# Altium schematic symbol library HamsterBear_Core_Board.SchLib: 24 symbols
Pins are listed as number, name and electrical type; pins without a type are passive.

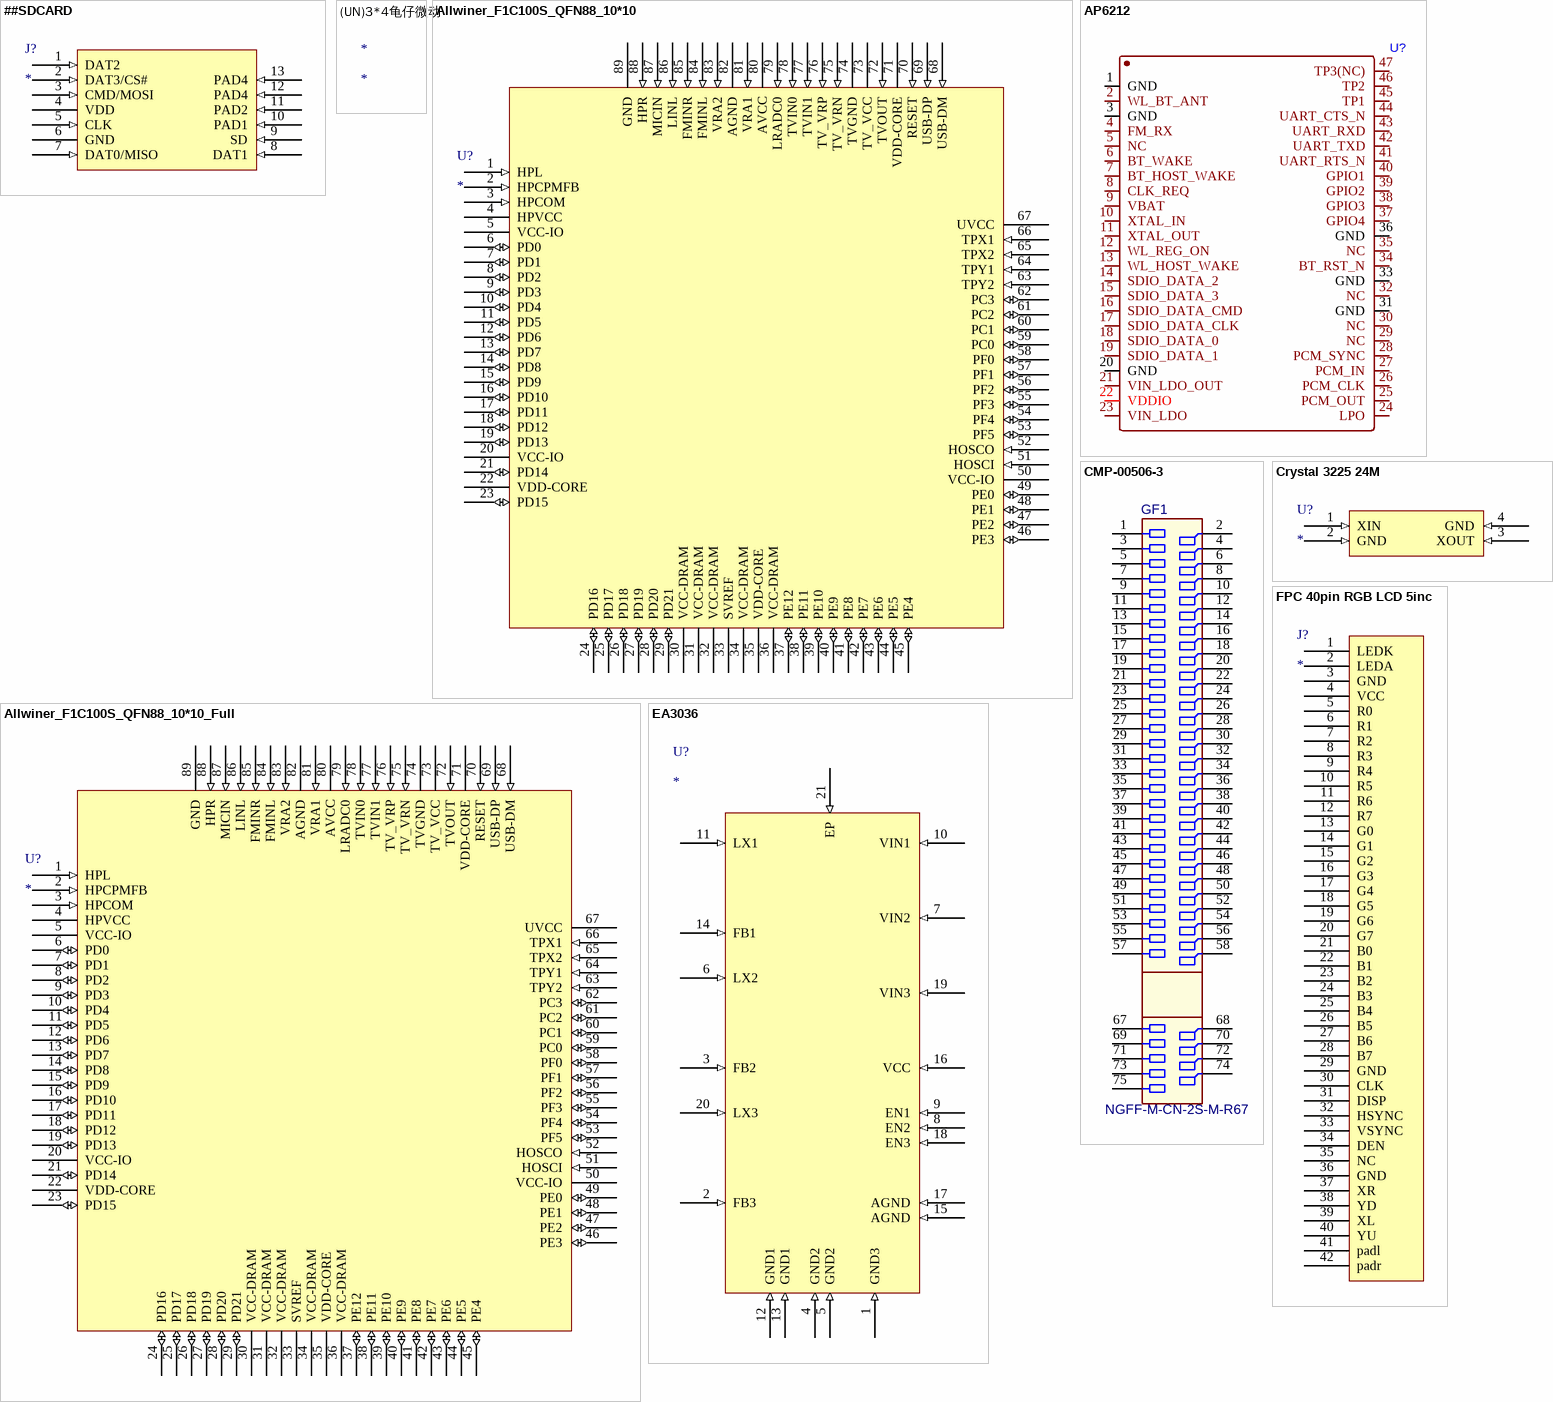
[diagram p0: symbols ##SDCARD to FPC 40pin RGB LCD 5inc]

## ##SDCARD
designator J?
pins: 1 DAT2 (in), 2 DAT3/CS# (in), 3 CMD/MOSI (in), 4 VDD (power), 5 CLK (in), 6 GND (power), 7 DAT0/MISO (in), 8 DAT1 (in), 9 SD (in), 10 PAD1 (in), 11 PAD2 (in), 12 PAD4 (in), 13 PAD4 (in)

## (UN)3*4龟仔微动
designator *

## Allwiner_F1C100S_QFN88_10*10
designator U?
footprint QFN40P1000X1000X90_HS-89N (QFN, 88-Leads, Body 10.00x10.00mm, Pitch 0.40mm, Thermal Pad 6.74x6.74mm, IPC Medium Density)
pins: 1 HPL (in) "Headphone Left Output", 2 HPCPMFB (in), 3 HPCOM (in), 4 HPVCC (power), 5 VCC-IO (power), 6 PD0 (io), 7 PD1 (io), 8 PD2 (io), 9 PD3 (io), 10 PD4 (io), 11 PD5 (io), 12 PD6 (io), 13 PD7 (io), 14 PD8 (io), 15 PD9 (io), 16 PD10 (io), 17 PD11 (io), 18 PD12 (io), 19 PD13 (io), 20 VCC-IO (power), 21 PD14 (io), 22 VDD-CORE (power), 23 PD15 (io), 24 PD16 (io), 25 PD17 (io), 26 PD18 (io), 27 PD19 (io), 28 PD20 (io), 29 PD21 (io), 30 VCC-DRAM (power), 31 VCC-DRAM (power), 32 VCC-DRAM (power), 33 SVREF (power), 34 VCC-DRAM (power), 35 VDD-CORE (power), 36 VCC-DRAM (power), 37 PE12 (io), 38 PE11 (io), 39 PE10 (io), 40 PE9 (io), 41 PE8 (io), 42 PE7 (io), 43 PE6 (io), 44 PE5 (io), 45 PE4 (io), 46 PE3 (io), 47 PE2 (io), 48 PE1 (io), 49 PE0 (io), 50 VCC-IO (power), 51 HOSCI (in), 52 HOSCO (in), 53 PF5 (io), 54 PF4 (io), 55 PF3 (io), 56 PF2 (io), 57 PF1 (io), 58 PF0 (io), 59 PC0 (io), 60 PC1 (io), 61 PC2 (io), 62 PC3 (io), 63 TPY2 (in), 64 TPY1 (in), 65 TPX2 (in), 66 TPX1 (in), 67 UVCC (power), 68 USB-DM (in), 69 USB-DP (in), 70 RESET (in), 71 VDD-CORE (power), 72 TVOUT (in), 73 TV_VCC (power), 74 TVGND (power), 75 TV_VRN (in), 76 TV_VRP (in), 77 TVIN1 (in), 78 TVIN0 (in), 79 LRADC0 (in), 80 AVCC (power), 81 VRA1 (in), 82 AGND (power), 83 VRA2 (in), 84 FMINL (in), 85 FMINR (in), 86 LINL (in), 87 MICIN (in), 88 HPR (in), 89 GND (power)

## Allwiner_F1C100S_QFN88_10*10_Full
designator U?
footprint QFN40P1000X1000X90_HS-89N (QFN, 88-Leads, Body 10.00x10.00mm, Pitch 0.40mm, Thermal Pad 6.74x6.74mm, IPC Medium Density)
pins: 1 HPL (in), 2 HPCPMFB (in), 3 HPCOM (in), 4 HPVCC (power), 5 VCC-IO (power), 6 PD0 (io), 7 PD1 (io), 8 PD2 (io), 9 PD3 (io), 10 PD4 (io), 11 PD5 (io), 12 PD6 (io), 13 PD7 (io), 14 PD8 (io), 15 PD9 (io), 16 PD10 (io), 17 PD11 (io), 18 PD12 (io), 19 PD13 (io), 20 VCC-IO (power), 21 PD14 (io), 22 VDD-CORE (power), 23 PD15 (io), 24 PD16 (io), 25 PD17 (io), 26 PD18 (io), 27 PD19 (io), 28 PD20 (io), 29 PD21 (io), 30 VCC-DRAM (power), 31 VCC-DRAM (power), 32 VCC-DRAM (power), 33 SVREF (power), 34 VCC-DRAM (power), 35 VDD-CORE (power), 36 VCC-DRAM (power), 37 PE12 (io), 38 PE11 (io), 39 PE10 (io), 40 PE9 (io), 41 PE8 (io), 42 PE7 (io), 43 PE6 (io), 44 PE5 (io), 45 PE4 (io), 46 PE3 (io), 47 PE2 (io), 48 PE1 (io), 49 PE0 (io), 50 VCC-IO (power), 51 HOSCI (in), 52 HOSCO (in), 53 PF5 (io), 54 PF4 (io), 55 PF3 (io), 56 PF2 (io), 57 PF1 (io), 58 PF0 (io), 59 PC0 (io), 60 PC1 (io), 61 PC2 (io), 62 PC3 (io), 63 TPY2 (in), 64 TPY1 (in), 65 TPX2 (in), 66 TPX1 (in), 67 UVCC (power), 68 USB-DM (in), 69 USB-DP (in), 70 RESET (in), 71 VDD-CORE (power), 72 TVOUT (in), 73 TV_VCC (power), 74 TVGND (power), 75 TV_VRN (in), 76 TV_VRP (in), 77 TVIN1 (in), 78 TVIN0 (in), 79 LRADC0 (in), 80 AVCC (power), 81 VRA1 (in), 82 AGND (power), 83 VRA2 (in), 84 FMINL (in), 85 FMINR (in), 86 LINL (in), 87 MICIN (in), 88 HPR (in), 89 GND (power)

## AP6212
designator U?
footprint QFN-44_L12.0-W12.0-P0.90-TL_AP6212
pins: 1 GND, 2 WL_BT_ANT, 3 GND, 4 FM_RX, 5 NC, 6 BT_WAKE, 7 BT_HOST_WAKE, 8 CLK_REQ, 9 VBAT, 10 XTAL_IN, 11 XTAL_OUT, 12 WL_REG_ON, 13 WL_HOST_WAKE, 14 SDIO_DATA_2, 15 SDIO_DATA_3, 16 SDIO_DATA_CMD, 17 SDIO_DATA_CLK, 18 SDIO_DATA_0, 19 SDIO_DATA_1, 20 GND, 21 VIN_LDO_OUT, 22 VDDIO, 23 VIN_LDO, 24 LPO, 25 PCM_OUT, 26 PCM_CLK, 27 PCM_IN, 28 PCM_SYNC, 29 NC, 30 NC, 31 GND, 32 NC, 33 GND, 34 BT_RST_N, 35 NC, 36 GND, 37 GPIO4, 38 GPIO3, 39 GPIO2, 40 GPIO1, 41 UART_RTS_N, 42 UART_TXD, 43 UART_RXD, 44 UART_CTS_N, 45 TP1, 46 TP2, 47 TP3(NC)

## CMP-00506-3
designator GF1, comment NGFF-M-CN-2S-M-R67  (no BOM)
Golden finger, NGFF key M, Dual, Staggered, Pitch 0.5mm, 67-Position; Pins: 67
footprint NGFF-M-GF-2D-500-1K-S67 (Golden finger, NGFF key M, Dual, Staggered, Pitch 0.5mm, 47-Position)
pins: 1, 2, 3, 4, 5, 6, 7, 8, 9, 10, 11, 12, 13, 14, 15, 16, 17, 18, 19, 20, 21, 22, 23, 24, 25, 26, 27, 28, 29, 30, 31, 32, 33, 34, 35, 36, 37, 38, 39, 40, 41, 42, 43, 44, 45, 46, 47, 48, 49, 50, 51, 52, 53, 54, 55, 56, 57, 58, 67, 68, 69, 70, 71, 72, 73, 74, 75

## Crystal 3225 24M
designator U?
footprint OSC 3225-4P (3.2*2.5*0.7mm(长宽高))
pins: 1 XIN (in), 2 GND (in), 3 XOUT (in), 4 GND (in)

## EA3036
designator U?
footprint QFN40P300X300X80_HS-21N (QFN, 20-Leads, Body 3.00x3.00mm, Pitch 0.40mm, Thermal Pad 2.05x2.05mm, IPC Medium Density)
pins: 1 GND3 (in), 2 FB3 (in), 3 FB2 (in), 4 GND2 (in), 5 GND2 (in), 6 LX2 (in), 7 VIN2 (in), 8 EN2 (in), 9 EN1 (in), 10 VIN1 (in), 11 LX1 (in), 12 GND1 (in), 13 GND1 (in), 14 FB1 (in), 15 AGND (in), 16 VCC (in), 17 AGND (in), 18 EN3 (in), 19 VIN3 (in), 20 LX3 (in), 21 EP (in)

## FPC 40pin RGB LCD 5inc
designator J?
footprint FPC0.5 2H-WS-40P (长：24.2mm，宽：5.2mm，高：2mm)
pins: 1 LEDK, 2 LEDA, 3 GND, 4 VCC, 5 R0, 6 R1, 7 R2, 8 R3, 9 R4, 10 R5, 11 R6, 12 R7, 13 G0, 14 G1, 15 G2, 16 G3, 17 G4, 18 G5, 19 G6, 20 G7, 21 B0, 22 B1, 23 B2, 24 B3, 25 B4, 26 B5, 27 B6, 28 B7, 29 GND, 30 CLK, 31 DISP, 32 HSYNC, 33 VSYNC, 34 DEN, 35 NC, 36 GND, 37 XR, 38 YD, 39 XL, 40 YU, 41 padl, 42 padr

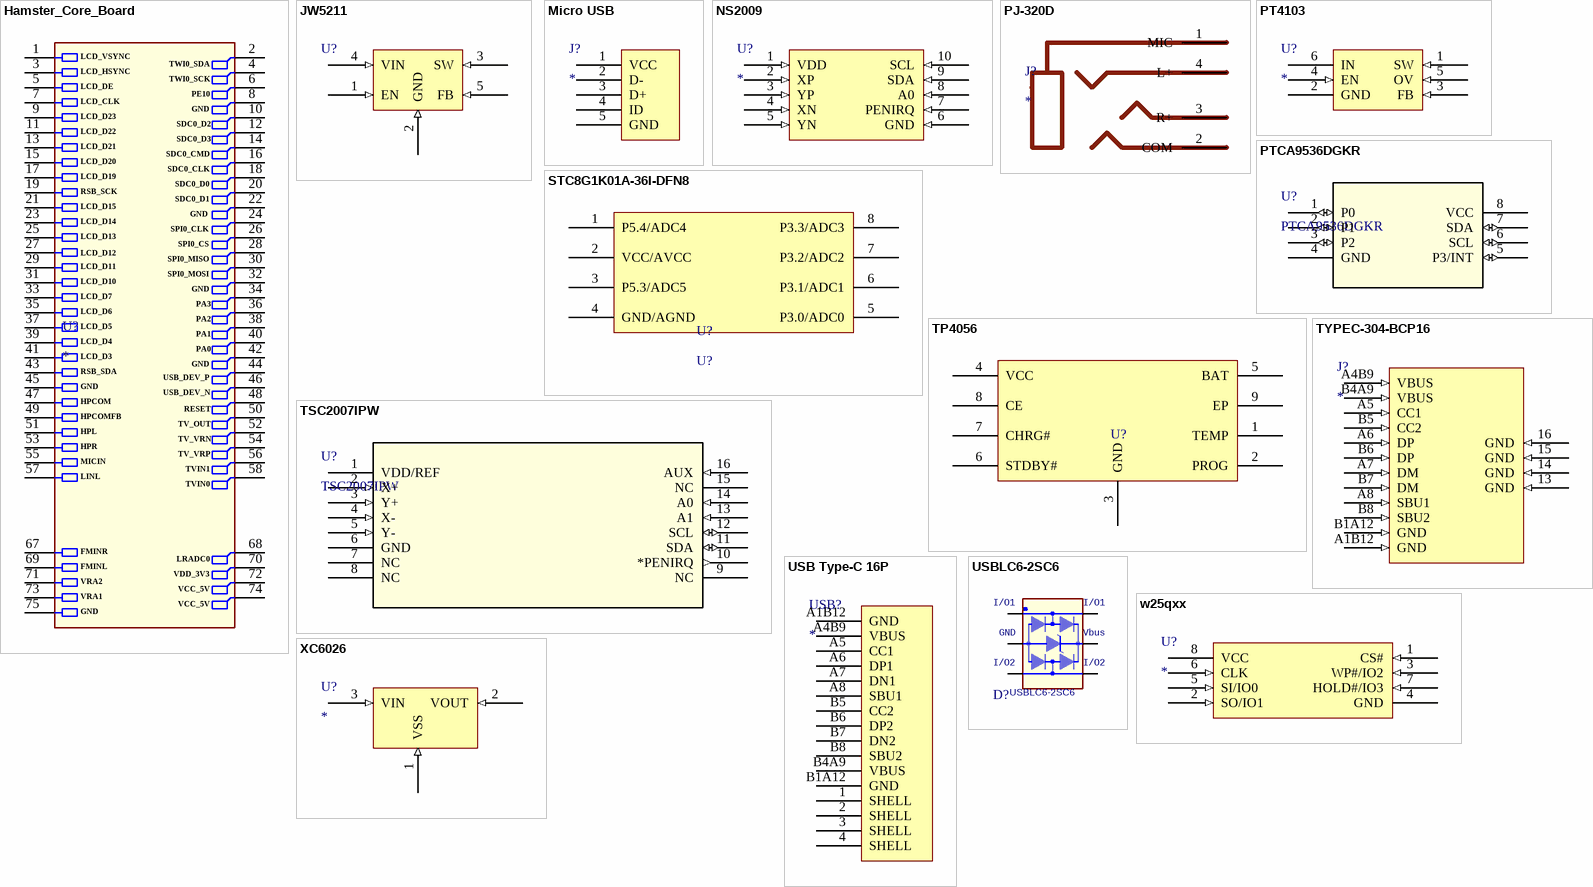
[diagram p1: symbols Hamster_Core_Board to XC6026]

## Hamster_Core_Board
designator U?
HamsterBear核心板
pins: 1, 2, 3, 4, 5, 6, 7, 8, 9, 10, 11, 12, 13, 14, 15, 16, 17, 18, 19, 20, 21, 22, 23, 24, 25, 26, 27, 28, 29, 30, 31, 32, 33, 34, 35, 36, 37, 38, 39, 40, 41, 42, 43, 44, 45, 46, 47, 48, 49, 50, 51, 52, 53, 54, 55, 56, 57, 58, 67, 68, 69, 70, 71, 72, 73, 74, 75
text: LCD_VSYNC; TWI0_SDA; LCD_HSYNC; TWI0_SCK; LCD_DE; PE10; LCD_CLK; GND; LCD_D23; SDC0_D2; LCD_D22; SDC0_D3; LCD_D21; SDC0_CMD; LCD_D20; SDC0_CLK; LCD_D19; SDC0_D0; RSB_SCK; SDC0_D1; LCD_D15; LCD_D14; SPI0_CLK; LCD_D13; SPI0_CS; LCD_D12; SPI0_MISO; LCD_D11; SPI0_MOSI; LCD_D10; LCD_D7; PA3; LCD_D6; PA2; LCD_D5; PA1; LCD_D4; PA0; LCD_D3; RSB_SDA; USB_DEV_P; USB_DEV_N; HPCOM; RESET; HPCOMFB; TV_OUT; HPL; TV_VRN; HPR; TV_VRP; MICIN; TVIN1; LINL; TVIN0; FMINR; LRADC0; FMINL; VDD_3V3; VRA2; VCC_5V; VRA1

## JW5211
designator U?
footprint SOT23-5
pins: 1 EN (in), 2 GND (in), 3 SW (in), 4 VIN (in), 5 FB (in)

## Micro USB
designator J?
footprint USB-micro_A (micro型USB ，5.7*7.8*2.5mm)
pins: 1 VCC (power), 2 D-, 3 D+, 4 ID, 5 GND (power)

## NS2009
designator U?
footprint TSSOP50P490X121-10N (TSSOP, 10-Leads, Body 3.00x3.00mm, Pitch 0.50mm, IPC Medium Density)
pins: 1 VDD (in), 2 XP (in), 3 YP (in), 4 XN (in), 5 YN (in), 6 GND (in), 7 PENIRQ (in), 8 A0 (in), 9 SDA (in), 10 SCL (in)

## PJ-320D
designator J?
footprint PJ-320D
pins: 1 MIC, 2 COM, 3 R+, 4 L+

## PT4103
designator U?
footprint SOT95P280X125-6N (SOT23, 6-Leads, Body 2.92x2.80mm, Pitch 0.95mm, IPC Medium Density)
pins: 1 SW (in), 2 GND (power), 3 FB (in), 4 EN (in), 5 OV (in), 6 IN (power)

## PTCA9536DGKR
designator U?
No Description Available; Mfr_Name: Texas Instruments; Copyright: Copyright (C) 2022 Ultra Librarian. All rights reserved.; Manufacturer_Part_Number: PTCA9536DGKR; RefDes: RefDes; Type: DEV
footprint U_VSSOP_DGK_TEX
footprint SOIC127P600X175-8N
pins: 1 P0 (io), 2 P1 (io), 3 P2 (io), 4 GND, 5 P3/INT (io), 6 SCL (io), 7 SDA (io), 8 VCC (power)

## STC8G1K01A-36I-DFN8
designator U?, comment U?
footprint STC8G1K01A-36I-SOP8 (SOP, 8-Leads, Body 4.90x3.90mm, Pitch 1.27mm, IPC Medium Density)
pins: 1 P5.4/ADC4, 2 VCC/AVCC, 3 P5.3/ADC5, 4 GND/AGND, 5 P3.0/ADC0, 6 P3.1/ADC1, 7 P3.2/ADC2, 8 P3.3/ADC3

## TP4056
designator U?
footprint TP4056-SOP8 (TSOP, 8-Leads, Body 4.90x3.90mm, Pitch 1.27mm, Thermal Pad 3.50x2.60mm, IPC Medium Density)
pins: 1 TEMP, 2 PROG, 3 GND, 4 VCC, 5 BAT, 6 STDBY#, 7 CHRG#, 8 CE, 9 EP

## TSC2007IPW
designator U?
No Description Available; Mfr_Name: Texas Instruments; Copyright: Copyright (C) 2022 Ultra Librarian. All rights reserved.; Manufacturer_Part_Number: TSC2007IPW; RefDes: RefDes; Type: DEV
footprint PW16
pins: 1 VDD/REF (power), 2 X+ (in), 3 Y+ (in), 4 X- (in), 5 Y- (in), 6 GND (power), 7 NC, 8 NC, 9 NC, 10 *PENIRQ (out), 11 SDA (io), 12 SCL (io), 13 A1 (in), 14 A0 (in), 15 NC, 16 AUX (in)

## TYPEC-304-BCP16
designator J?
pins: 13 GND (in), 14 GND (in), 15 GND (in), 16 GND (in), A1B12 GND (in), A4B9 VBUS (in), A5 CC1 (in), A6 DP (in), A7 DM (in), A8 SBU1 (in), B1A12 GND (in), B4A9 VBUS (in), B5 CC2 (in), B6 DP (in), B7 DM (in), B8 SBU2 (in)

## USB Type-C 16P
designator USB?
footprint typec 16pin
pins: 1 SHELL, 2 SHELL, 3 SHELL, 4 SHELL, A1B12 GND, A4B9 VBUS, A5 CC1, A6 DP1, A7 DN1, A8 SBU1, B1A12 GND, B4A9 VBUS, B5 CC2, B6 DP2, B7 DN2, B8 SBU2

## USBLC6-2SC6
designator D?
footprint ST_SOT23-6L
pins: 1 I/O1, 2 GND, 3 I/O2, 4 I/O2+, 5 Vbus, 6 I/O1+

## w25qxx
designator U?
footprint W25QXX-SOIC127P790X216-8N (SOIC, 8-Leads, Body 5.28x5.23mm, Pitch 1.27mm, IPC Medium Density)
pins: 1 CS# (in), 2 SO/IO1 (in), 3 WP#/IO2 (in), 4 GND (power), 5 SI/IO0 (in), 6 CLK (in), 7 HOLD#/IO3 (in), 8 VCC (power)

## XC6026
designator U?
footprint SOT95P290X120-3N (SOT23, 3-Leads, Body 2.90x2.90mm, Pitch 0.95mm, IPC Medium Density)
pins: 1 VSS (in), 2 VOUT (in), 3 VIN (in)